# EAGLE library part MCP23017-E/SS (library MCP23017)
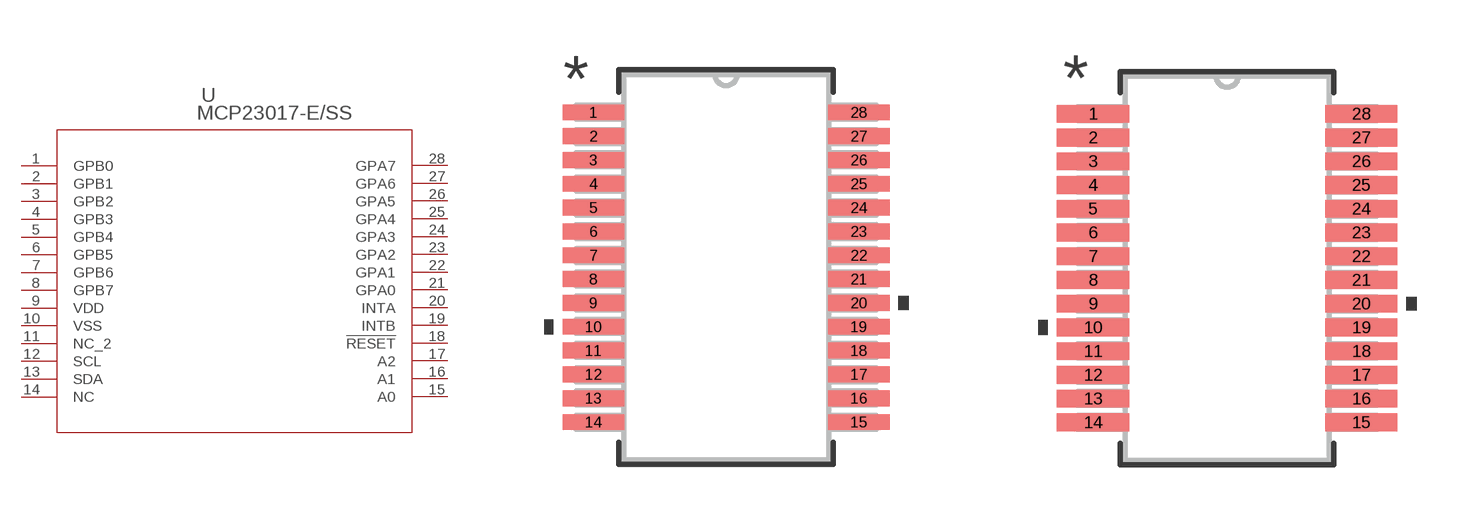
[diagram p0: symbol with the pads of SSOP28_MC; footprints SSOP28_MC, SSOP28_MC-M]

Designator prefix U

## MCP23017-E/SS (MANUFACTURER_PART_NUMBER: MCP23017ESS; VENDOR: Microchip)  [SSOP28_MC]
1  GPB0  pas
2  GPB1  pas
3  GPB2  pas
4  GPB3  pas
5  GPB4  pas
6  GPB5  pas
7  GPB6  pas
8  GPB7  pas
9  VDD  pas
10  VSS  pas
11  NC_2  pas
12  SCL  pas
13  SDA  pas
14  NC  pas
15  A0  pas
16  A1  pas
17  A2  pas
18  !RESET  pas
19  INTB  pas
20  INTA  pas
21  GPA0  pas
22  GPA1  pas
23  GPA2  pas
24  GPA3  pas
25  GPA4  pas
26  GPA5  pas
27  GPA6  pas
28  GPA7  pas

## MCP23017-E/SSSSOP28_MC-M (MANUFACTURER_PART_NUMBER: MCP23017ESS; VENDOR: Microchip)  [SSOP28_MC-M]
Pads as for SSOP28_MC

## MCP23017-E/SSSSOP28_MC-L (MANUFACTURER_PART_NUMBER: MCP23017ESS; VENDOR: Microchip)  [SSOP28_MC-L]
Pads as for SSOP28_MC

## Footprint SSOP28_MC (pad centres in mm)
smd 1.676 x 0.432: 1 -3.617,4.225; 2 -3.617,3.575; 3 -3.617,2.925; 4 -3.617,2.275; 5 -3.617,1.625; 6 -3.617,0.975; 7 -3.617,0.325; 8 -3.617,-0.325; 9 -3.617,-0.975; 10 -3.617,-1.625; 11 -3.617,-2.275; 12 -3.617,-2.925; 13 -3.617,-3.575; 14 -3.617,-4.225; 15 3.617,-4.225; 16 3.617,-3.575; 17 3.617,-2.925; 18 3.617,-2.275; 19 3.617,-1.625; 20 3.617,-0.975; 21 3.617,-0.325; 22 3.617,0.325; 23 3.617,0.975; 24 3.617,1.625; 25 3.617,2.275; 26 3.617,2.925; 27 3.617,3.575; 28 3.617,4.225

## Footprint SSOP28_MC-M (pad centres in mm)
smd 1.981 x 0.483: 1 -3.668,4.225; 2 -3.668,3.575; 3 -3.668,2.925; 4 -3.668,2.275; 5 -3.668,1.625; 6 -3.668,0.975; 7 -3.668,0.325; 8 -3.668,-0.325; 9 -3.668,-0.975; 10 -3.668,-1.625; 11 -3.668,-2.275; 12 -3.668,-2.925; 13 -3.668,-3.575; 14 -3.668,-4.225; 15 3.668,-4.225; 16 3.668,-3.575; 17 3.668,-2.925; 18 3.668,-2.275; 19 3.668,-1.625; 20 3.668,-0.975; 21 3.668,-0.325; 22 3.668,0.325; 23 3.668,0.975; 24 3.668,1.625; 25 3.668,2.275; 26 3.668,2.925; 27 3.668,3.575; 28 3.668,4.225

## Footprint SSOP28_MC-L (pad centres in mm)
smd 1.372 x 0.381: 1 -3.567,4.225; 2 -3.567,3.575; 3 -3.567,2.925; 4 -3.567,2.275; 5 -3.567,1.625; 6 -3.567,0.975; 7 -3.567,0.325; 8 -3.567,-0.325; 9 -3.567,-0.975; 10 -3.567,-1.625; 11 -3.567,-2.275; 12 -3.567,-2.925; 13 -3.567,-3.575; 14 -3.567,-4.225; 15 3.567,-4.225; 16 3.567,-3.575; 17 3.567,-2.925; 18 3.567,-2.275; 19 3.567,-1.625; 20 3.567,-0.975; 21 3.567,-0.325; 22 3.567,0.325; 23 3.567,0.975; 24 3.567,1.625; 25 3.567,2.275; 26 3.567,2.925; 27 3.567,3.575; 28 3.567,4.225